# EAGLE library part ESP32-C6 (library !GPLIB_ACTIVE)
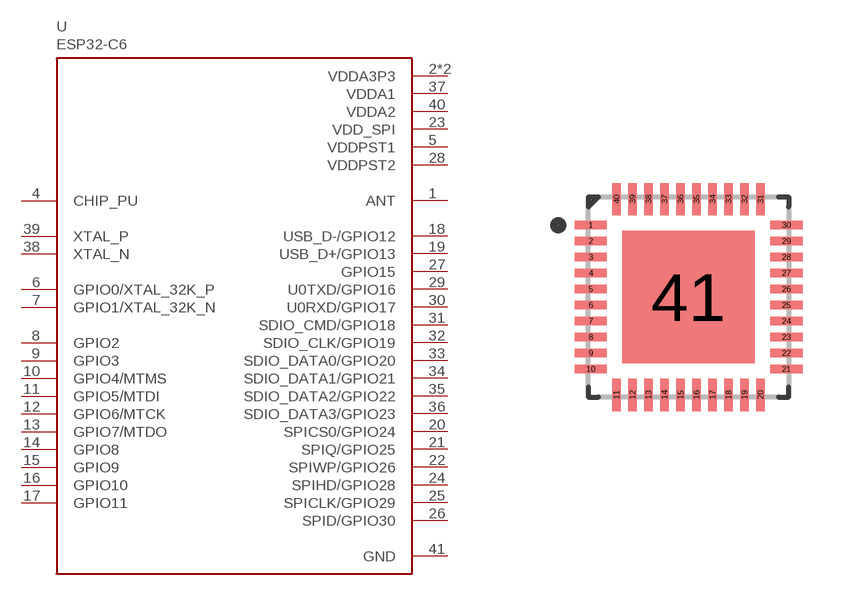
[diagram p80: symbol with the pads of QFN40P500X500X90-41N; footprint QFN40P500X500X90-41N]

Designator prefix U

## ESP32-C6  [QFN40P500X500X90-41N]
1  ANT
2  VDDA3P3  pwr
3  VDDA3P3  pwr
4  CHIP_PU  in
5  VDDPST1  pwr
6  GPIO0/XTAL_32K_P
7  GPIO1/XTAL_32K_N
8  GPIO2
9  GPIO3
10  GPIO4/MTMS
11  GPIO5/MTDI
12  GPIO6/MTCK
13  GPIO7/MTDO
14  GPIO8
15  GPIO9
16  GPIO10
17  GPIO11
18  USB_D-/GPIO12
19  USB_D+/GPIO13
20  SPICS0/GPIO24
21  SPIQ/GPIO25
22  SPIWP/GPIO26
23  VDD_SPI  pwr
24  SPIHD/GPIO28
25  SPICLK/GPIO29
26  SPID/GPIO30
27  GPIO15
28  VDDPST2  pwr
29  U0TXD/GPIO16
30  U0RXD/GPIO17
31  SDIO_CMD/GPIO18
32  SDIO_CLK/GPIO19
33  SDIO_DATA0/GPIO20
34  SDIO_DATA1/GPIO21
35  SDIO_DATA2/GPIO22
36  SDIO_DATA3/GPIO23
37  VDDA1  pwr
38  XTAL_N
39  XTAL_P
40  VDDA2  pwr
41  GND  pwr

## Footprint QFN40P500X500X90-41N (pad centres in mm)
smd 0.81 x 0.22: 1 -2.445,1.8; 2 -2.445,1.4; 3 -2.445,1; 4 -2.445,0.6; 5 -2.445,0.2; 6 -2.445,-0.2; 7 -2.445,-0.6; 8 -2.445,-1; 9 -2.445,-1.4; 10 -2.445,-1.8; 21 2.445,-1.8; 22 2.445,-1.4; 23 2.445,-1; 24 2.445,-0.6; 25 2.445,-0.2; 26 2.445,0.2; 27 2.445,0.6; 28 2.445,1; 29 2.445,1.4; 30 2.445,1.8
smd 0.22 x 0.81: 11 -1.8,-2.445; 12 -1.4,-2.445; 13 -1,-2.445; 14 -0.6,-2.445; 15 -0.2,-2.445; 16 0.2,-2.445; 17 0.6,-2.445; 18 1,-2.445; 19 1.4,-2.445; 20 1.8,-2.445; 31 1.8,2.445; 32 1.4,2.445; 33 1,2.445; 34 0.6,2.445; 35 0.2,2.445; 36 -0.2,2.445; 37 -0.6,2.445; 38 -1,2.445; 39 -1.4,2.445; 40 -1.8,2.445
smd 3.3 x 3.3: 41 0,0